# EAGLE library part MMS-108-02-X-XX-DH (library samtec)
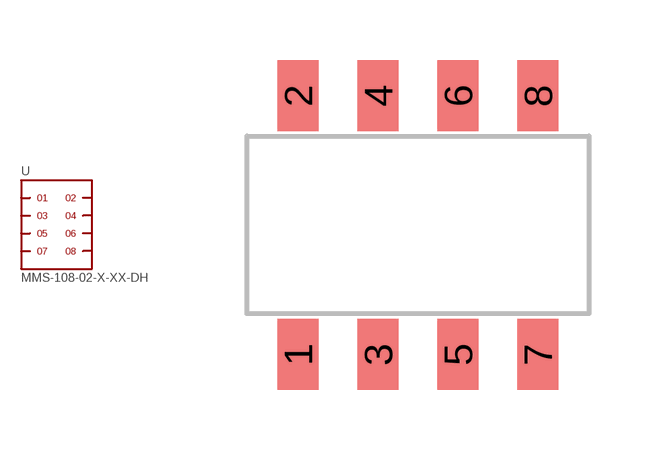
[diagram p16: symbol with the pads of MMS-108-02-X-XX-DH; footprint MMS-108-02-X-XX-DH]

Designator prefix -

## MMS-108-02-X-XX-DH  [MMS-108-02-X-XX-DH]
1  1
2  2
3  3
4  4
5  5
6  6
7  7
8  8

## Footprint MMS-108-02-X-XX-DH (pad centres in mm)
smd 1.02 x 1.78: 1 -3,-3.24; 2 -3,3.24; 3 -1,-3.24; 4 -1,3.24; 5 1,-3.24; 6 1,3.24; 7 3,-3.24; 8 3,3.24